# Altium schematic symbol library OPAM.SchLib: 1 symbol
Pins are listed as number, name and electrical type; pins without a type are passive.

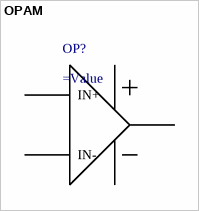
[diagram p0: symbol OPAM]

## OPAM
designator OP?
=Description
pins: 1 Out, 2 -, 3 IN+, 4 IN-, 5 +